# Altium footprint library PcbLib1.PcbLib: 22 footprints (part 2 of 2)
Each footprint in its own frame and in the unit in brackets; x right, y up, seen from the top. Pads: shape width x height; smd on the part's side, far side on the other; paste and mask are expansions set on the pad; w line width, h text height; cw(c..) or ccw(c..) is an arc to the next point about the centre after c.
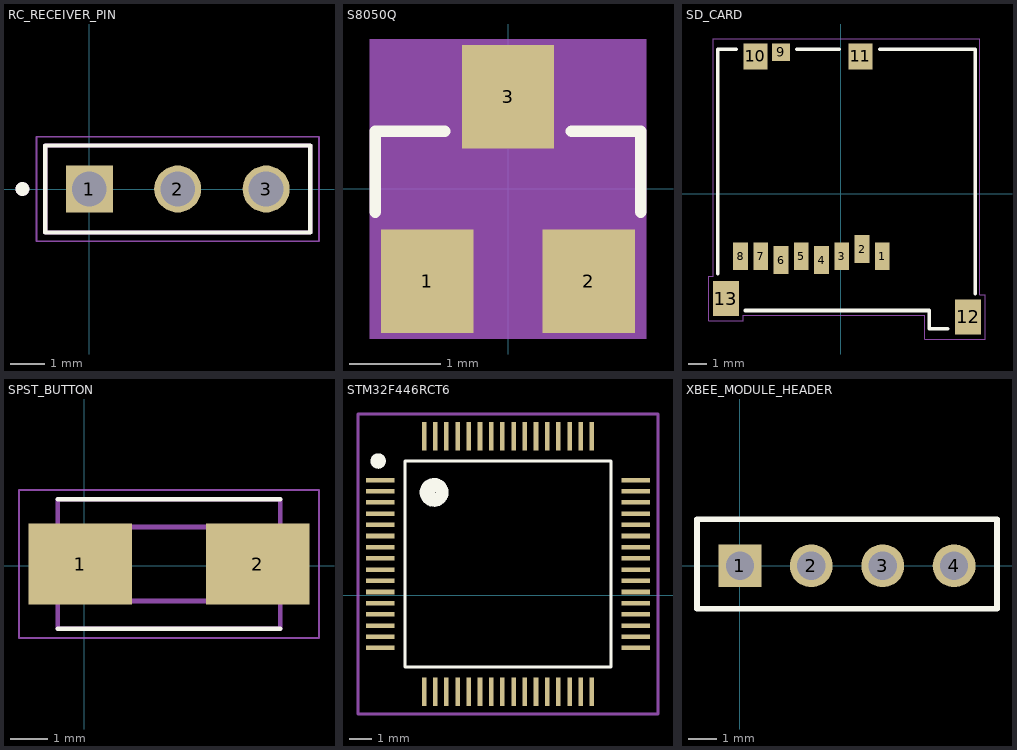
[diagram p1: the footprints below, top view; thin cyan lines are the x and y axes]

## RC_RECEIVER_PIN [mm]
pads (3):
  rect 1.35x1.35 / inner round 1.35 / far side rect 1.35x1.35 hole 1: 1(0,0)
  round 1.35 hole 1: 2(2.54,0) 3(5.08,0)
Top Overlay:
  circle w0.2: c-1.92,0 r0.1
  lines w0.127: -1.27,-1.25 6.35,-1.25 6.35,1.25 -1.27,1.25 -1.27,-1.25
Mechanical 13:
  circle w0.2: c-1.92,0 r0.1
  lines w0.127: -1.27,-1.25 6.35,-1.25 ; -1.27,-1.25 6.35,-1.25 ; -1.27,-1.25 -1.27,1.25 6.35,1.25 6.35,-1.25
Mechanical 15:
  lines w0.05: -1.52,-1.5 6.6,-1.5 6.6,1.5 -1.52,1.5 -1.52,-1.5
3D body "826926-3--3DModel-STEP-1.STEP": height 9.75, standoff -2.95, extent -1.27,-1.25 6.35,1.25

## S8050Q [mil] "BJT TRANSISTOR"
pads (3):
  rect 40x45 smd: 1(-35,-40) 2(35,-40) 3(0,40)
Top Overlay:
  lines w5: -57.5,-10 -57.5,25 -27.5,25 ; 27.5,25 57.5,25 57.5,-10
Mechanical 13:
  region: -28,-51 -46,-51 -46,-28 -28,-28
  region: 46,-51.01 28.01,-51.01 28.01,-28 46,-28
  region: 9,28 -9,28 -9,51 9,51
Mechanical 15:
  region: 60,-65.06 -60.06,-65.06 -60.06,65 60,65
3D body "step_temp.STEP": height 55.12, standoff 0, extent -57.09,-51.18 57.09,51.18

## SD_CARD [mm]
pads (13):
  rect 0.8x1.5 smd: 1(2.26,-3.411) 2(1.16,-3.011) 3(0.06,-3.411) 4(-1.04,-3.611) 5(-2.14,-3.411) 6(-3.24,-3.611) 7(-4.34,-3.411) 8(-5.44,-3.411)
  rect 1x0.95 smd: 9(-3.24,7.674)
  rect 1.3x1.4 smd: 10(-4.63,7.449) 11(1.07,7.449)
  rect 1.4x1.9 smd: 12(6.92,-6.701) 13(-6.23,-5.701)
Top Overlay:
  lines w0.2: -6.68,-4.351 -6.68,7.849 -5.68,7.849 ; -5.18,-6.351 4.82,-6.351 4.82,-7.351 5.82,-7.351 ; -2.38,7.849 -0.08,7.849 ; 2.12,7.849 7.32,7.849 7.32,-5.451
Mechanical 15:
  lines w0.05: -7.18,-6.901 -7.18,-4.501 -6.93,-4.501 -6.93,8.399 7.57,8.399 7.57,-5.501 7.87,-5.501 7.87,-7.901 4.57,-7.901 4.57,-6.601 -5.28,-6.601 -5.28,-6.901 -7.18,-6.901
3D body "step_temp.STEP": height 1.95, standoff 0, extent -6.73,-7.351 7.37,7.949

## SPST_BUTTON [mm]
pads (2):
  rect 2.8x2.2 smd: 1(-0.114,0.045) 2(4.686,0.045)
Top Overlay:
  lines w0.127: -0.714,-1.705 5.286,-1.705 ; -0.714,1.795 5.286,1.795
Mechanical 13:
  lines w0.127: -0.714,-1.705 5.286,-1.705 5.286,1.795 -0.714,1.795 -0.714,-1.705 ; 0.786,-0.955 3.786,-0.955 3.786,1.045 0.786,1.045 0.786,-0.955
Mechanical 15:
  lines w0.05: -1.764,-1.955 6.336,-1.955 6.336,2.045 -1.764,2.045 -1.764,-1.955
3D body "147873-1.stp": height 5.18, standoff -0.02, extent -1.114,-1.705 5.686,1.795

## STM32F446RCT6 [mil]
pads (64):
  rect 50x8 smd: 1(325.59,202.64) 2(325.59,182.95) 3(325.59,163.27) 4(325.59,143.58) 5(325.59,123.9) 6(325.59,104.21) 7(325.59,84.53) 8(325.59,64.84) 9(325.59,45.16) 10(325.59,25.47) 11(325.59,5.79) 12(325.59,-13.9) 13(325.59,-33.58) 14(325.59,-53.27) 15(325.59,-72.95) 16(325.59,-92.64) 33(774.41,-92.64) 34(774.41,-72.95) 35(774.41,-53.27) 36(774.41,-33.58) 37(774.41,-13.9) 38(774.41,5.79) 39(774.41,25.47) 40(774.41,45.16) 41(774.41,64.84) 42(774.41,84.53) 43(774.41,104.21) 44(774.41,123.9) 45(774.41,143.58) 46(774.41,163.27) 47(774.41,182.95) 48(774.41,202.64)
  rect 8x50 smd: 17(402.36,-169.41) 18(422.05,-169.41) 19(441.73,-169.41) 20(461.42,-169.41) 21(481.1,-169.41) 22(500.79,-169.41) 23(520.47,-169.41) 24(540.16,-169.41) 25(559.84,-169.41) 26(579.53,-169.41) 27(599.21,-169.41) 28(618.9,-169.41) 29(638.58,-169.41) 30(658.27,-169.41) 31(677.95,-169.41) 32(697.64,-169.41) 49(697.64,279.41) 50(677.95,279.41) 51(658.27,279.41) 52(638.58,279.41) 53(618.9,279.41) 54(599.21,279.41) 55(579.53,279.41) 56(559.84,279.41) 57(540.16,279.41) 58(520.47,279.41) 59(500.79,279.41) 60(481.1,279.41) 61(461.42,279.41) 62(441.73,279.41) 63(422.05,279.41) 64(402.36,279.41)
Top Overlay:
  circle w5: c317.72,236.1 r3.94
  circle w5: c321.65,236.1 r5.57
  circle w5: c321.65,236.1 r3.94
  circle w5: c321.65,236.1 r5.57
  circle w5: c321.65,236.1 r8.8
  circle w5: c321.65,236.1 r11.14
  circle w5: c416.14,180.98 r3.94
  circle w5: c420.08,180.98 r8.8
  circle w5: c420.08,180.98 r5.57
  circle w5: c420.08,180.98 r14.2
  circle w5: c420.08,180.98 r11.14
  circle w5: c420.08,180.98 r16.7
  circle w5: c420.08,180.98 r19.68
  circle w5: c420.08,180.98 r22.27
  circle w5: c420.08,180.98 r22.96
  lines w5: 368.9,-126.1 368.9,236.1 731.1,236.1 731.1,-126.1 368.9,-126.1
Mechanical 15:
  lines w5: 286.22,-208.78 286.22,318.78 813.78,318.78 813.78,-208.78 286.22,-208.78
3D body "STM32F446RCT6.STEP": height 62.99, standoff 0, extent 313.78,-181.22 786.22,291.22

## XBEE_MODULE_HEADER [mil]
pads (4):
  rect 60x60 hole 39.37: 1(0,0)
  round 60 hole 39.37: 2(100,0) 3(200,0) 4(300,0)
Top Overlay:
  lines w7.87: -60,-60 -60,65 360,65 360,-60 -60,-60
3D body "User Library-RM254_4pin.sldprt": height 276.38, standoff -82.68, extent -50,-50 350,50